# Altium schematic symbol library ICs_And_Semiconductors.SchLib: 1 symbol
Pins are listed as number, name and electrical type; pins without a type are passive.

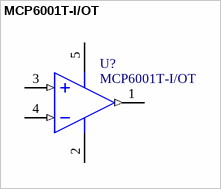
[diagram p0: symbol MCP6001T-I/OT]

## MCP6001T-I/OT
designator U?
1 MHz, Low-Power Operational Amplifier, 5-Pin SOT-23, Industrial Temperature, Tape and Reel; Manufacturer: Microchip; Supplier 1: Farnell; Supplier Part Number 1: 4974992; Mounting Technology: Surface Mount; Package: SOT23-5; Manufacturer Part Number: MCP6001T-I/OT; Value: MCP6001T-I/OT; Part Type: Ampliefier; Mounting: SMD; ComponentLink1Description: Datasheet; ComponentLink1URL: https://ww1.microchip.com/downloads/en/DeviceDoc/MCP6001-1R-1U-2-4-1-MHz-Low-Power-Op-Amp-DS20001733L.pdf
footprint SOT95P270X145-5N
pins: 1 VOUT (out), 2 VSS (power), 3 VIN+ (in), 4 VIN- (in), 5 VDD (power)